# Altium schematic symbol library RF_Filter.SchLib: 201 symbols (part 1 of 2)
Pins are listed as number, name and electrical type; pins without a type are passive.

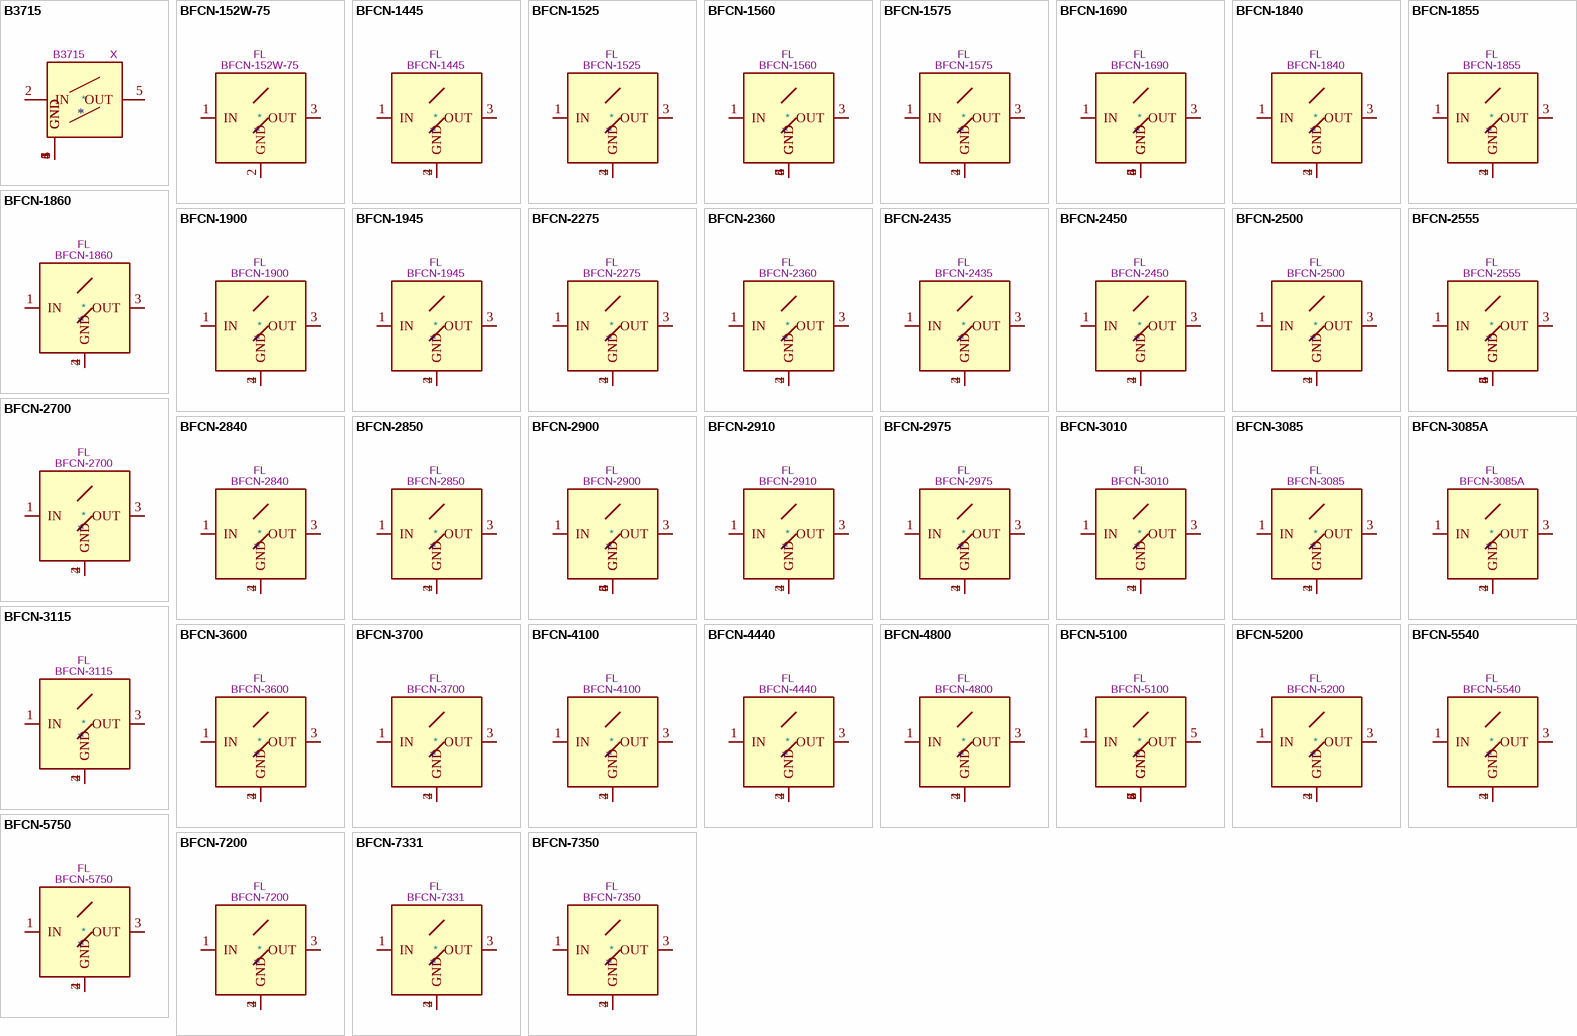
[diagram p0: symbols B3715 to BFCN-7350]

## B3715
designator *  value B3715  Reference: X
Bandpass Filter, 869MHz, SAW filter 6-pin; ki_keywords: SAW Filter 869 bandpass; ki_fp_filters: Filter*SAW*DCC6C*3x3mm*; Footprint: Filter:Filter_SAW_Epcos_DCC6C_3x3mm; Datasheet: https://www.mouser.de/datasheet/2/842/epcos16633_1-2300371.pdf; Description_: Bandpass Filter, 869MHz, SAW filter 6-pin
pins: 1 GND, 2 IN, 3 GND, 4 GND, 5 OUT, 6 GND

## BFCN-152W-75
designator *  value BFCN-152W-75  Reference: FL
950-1970MHz 75 Ohm Passive Band Pass Filter, FV1206-7; ki_keywords: Mini-Circuits band pass filter; ki_fp_filters: Filter*Mini?Circuits*FV1206?7*; Footprint: Filter:Filter_Mini-Circuits_FV1206-7; Datasheet: https://www.minicircuits.com/pdfs/BFCN-1445+.pdf; Description_: 950-1970MHz 75 Ohm Passive Band Pass Filter, FV1206-7
pins: 1 IN, 2 GND, 3 OUT

## BFCN-1445
designator *  value BFCN-1445  Reference: FL
1420-1470MHz 50 Ohm Passive Band Pass Filter, FV1206; ki_keywords: Mini-Circuits band pass filter; ki_fp_filters: Filter*Mini?Circuits*FV1206*; Footprint: Filter:Filter_Mini-Circuits_FV1206; Datasheet: https://www.minicircuits.com/pdfs/BFCN-1445+.pdf; Description_: 1420-1470MHz 50 Ohm Passive Band Pass Filter, FV1206
pins: 1 IN, 2 GND, 3 OUT, 4 GND

## BFCN-1525
designator *  value BFCN-1525  Reference: FL
1480-1570MHz 50 Ohm Passive Band Pass Filter, FV1206; ki_keywords: Mini-Circuits band pass filter; ki_fp_filters: Filter*Mini?Circuits*FV1206*; Footprint: Filter:Filter_Mini-Circuits_FV1206; Datasheet: https://www.minicircuits.com/pdfs/BFCN-1525+.pdf; Description_: 1480-1570MHz 50 Ohm Passive Band Pass Filter, FV1206
pins: 1 IN, 2 GND, 3 OUT, 4 GND

## BFCN-1560
designator *  value BFCN-1560  Reference: FL
1500-1620MHz 50 Ohm Passive Band Pass Filter, FV1206-1; ki_keywords: Mini-Circuits band pass filter; ki_fp_filters: Filter*Mini?Circuits*FV1206?1*; Footprint: Filter:Filter_Mini-Circuits_FV1206-1; Datasheet: https://www.minicircuits.com/pdfs/BFCN-1560+.pdf; Description_: 1500-1620MHz 50 Ohm Passive Band Pass Filter, FV1206-1
pins: 1 IN, 2 GND, 3 OUT, 4 GND, 5 GND, 6 GND

## BFCN-1575
designator *  value BFCN-1575  Reference: FL
1530-1620MHz 50 Ohm Passive Band Pass Filter, FV1206; ki_keywords: Mini-Circuits band pass filter; ki_fp_filters: Filter*Mini?Circuits*FV1206*; Footprint: Filter:Filter_Mini-Circuits_FV1206; Datasheet: https://www.minicircuits.com/pdfs/BFCN-1575+.pdf; Description_: 1530-1620MHz 50 Ohm Passive Band Pass Filter, FV1206
pins: 1 IN, 2 GND, 3 OUT, 4 GND

## BFCN-1690
designator *  value BFCN-1690  Reference: FL
1570-1810MHz 50 Ohm Passive Band Pass Filter, FV1206-1; ki_keywords: Mini-Circuits band pass filter; ki_fp_filters: Filter*Mini?Circuits*FV1206?1*; Footprint: Filter:Filter_Mini-Circuits_FV1206-1; Datasheet: https://www.minicircuits.com/pdfs/BFCN-1690+.pdf; Description_: 1570-1810MHz 50 Ohm Passive Band Pass Filter, FV1206-1
pins: 1 IN, 2 GND, 3 OUT, 4 GND, 5 GND, 6 GND

## BFCN-1840
designator *  value BFCN-1840  Reference: FL
1750-1930MHz 50 Ohm Passive Band Pass Filter, FV1206; ki_keywords: Mini-Circuits band pass filter; ki_fp_filters: Filter*Mini?Circuits*FV1206*; Footprint: Filter:Filter_Mini-Circuits_FV1206; Datasheet: https://www.minicircuits.com/pdfs/BFCN-1840+.pdf; Description_: 1750-1930MHz 50 Ohm Passive Band Pass Filter, FV1206
pins: 1 IN, 2 GND, 3 OUT, 4 GND

## BFCN-1855
designator *  value BFCN-1855  Reference: FL
1790-1920MHz 50 Ohm Passive Band Pass Filter, FV1206; ki_keywords: Mini-Circuits band pass filter; ki_fp_filters: Filter*Mini?Circuits*FV1206*; Footprint: Filter:Filter_Mini-Circuits_FV1206; Datasheet: https://www.minicircuits.com/pdfs/BFCN-1855+.pdf; Description_: 1790-1920MHz 50 Ohm Passive Band Pass Filter, FV1206
pins: 1 IN, 2 GND, 3 OUT, 4 GND

## BFCN-1860
designator *  value BFCN-1860  Reference: FL
1580-2200MHz 50 Ohm Passive Band Pass Filter, FV1206-4; ki_keywords: Mini-Circuits band pass filter; ki_fp_filters: Filter*Mini?Circuits*FV1206?4*; Footprint: Filter:Filter_Mini-Circuits_FV1206-4; Datasheet: https://www.minicircuits.com/pdfs/BFCN-1860+.pdf; Description_: 1580-2200MHz 50 Ohm Passive Band Pass Filter, FV1206-4
pins: 1 IN, 2 GND, 3 OUT, 4 GND

## BFCN-1900
designator *  value BFCN-1900  Reference: FL
1893-1920MHz 50 Ohm Passive Band Pass Filter, FV1206-5; ki_keywords: Mini-Circuits band pass filter; ki_fp_filters: Filter*Mini?Circuits*FV1206?5*; Footprint: Filter:Filter_Mini-Circuits_FV1206-5; Datasheet: https://www.minicircuits.com/pdfs/BFCN-1900+.pdf; Description_: 1893-1920MHz 50 Ohm Passive Band Pass Filter, FV1206-5
pins: 1 IN, 2 GND, 3 OUT, 4 GND

## BFCN-1945
designator *  value BFCN-1945  Reference: FL
1850-2040MHz 50 Ohm Passive Band Pass Filter, FV1206; ki_keywords: Mini-Circuits band pass filter; ki_fp_filters: Filter*Mini?Circuits*FV1206*; Footprint: Filter:Filter_Mini-Circuits_FV1206; Datasheet: https://www.minicircuits.com/pdfs/BFCN-1945+.pdf; Description_: 1850-2040MHz 50 Ohm Passive Band Pass Filter, FV1206
pins: 1 IN, 2 GND, 3 OUT, 4 GND

## BFCN-2275
designator *  value BFCN-2275  Reference: FL
2170-2380MHz 50 Ohm Passive Band Pass Filter, FV1206; ki_keywords: Mini-Circuits band pass filter; ki_fp_filters: Filter*Mini?Circuits*FV1206*; Footprint: Filter:Filter_Mini-Circuits_FV1206; Datasheet: https://www.minicircuits.com/pdfs/BFCN-2275+.pdf; Description_: 2170-2380MHz 50 Ohm Passive Band Pass Filter, FV1206
pins: 1 IN, 2 GND, 3 OUT, 4 GND

## BFCN-2360
designator *  value BFCN-2360  Reference: FL
2250-2470MHz 50 Ohm Passive Band Pass Filter, FV1206; ki_keywords: Mini-Circuits band pass filter; ki_fp_filters: Filter*Mini?Circuits*FV1206*; Footprint: Filter:Filter_Mini-Circuits_FV1206; Datasheet: https://www.minicircuits.com/pdfs/BFCN-2360+.pdf; Description_: 2250-2470MHz 50 Ohm Passive Band Pass Filter, FV1206
pins: 1 IN, 2 GND, 3 OUT, 4 GND

## BFCN-2435
designator *  value BFCN-2435  Reference: FL
2340-2530MHz 50 Ohm Passive Band Pass Filter, FV1206; ki_keywords: Mini-Circuits band pass filter; ki_fp_filters: Filter*Mini?Circuits*FV1206*; Footprint: Filter:Filter_Mini-Circuits_FV1206; Datasheet: https://www.minicircuits.com/pdfs/BFCN-2435+.pdf; Description_: 2340-2530MHz 50 Ohm Passive Band Pass Filter, FV1206
pins: 1 IN, 2 GND, 3 OUT, 4 GND

## BFCN-2450
designator *  value BFCN-2450  Reference: FL
2400-2550MHz 50 Ohm Passive Band Pass Filter, FV1206-4; ki_keywords: Mini-Circuits band pass filter; ki_fp_filters: Filter*Mini?Circuits*FV1206?4*; Footprint: Filter:Filter_Mini-Circuits_FV1206-4; Datasheet: https://www.minicircuits.com/pdfs/BFCN-2450+.pdf; Description_: 2400-2550MHz 50 Ohm Passive Band Pass Filter, FV1206-4
pins: 1 IN, 2 GND, 3 OUT, 4 GND

## BFCN-2500
designator *  value BFCN-2500  Reference: FL
2100-2900MHz 50 Ohm Passive Band Pass Filter, FV1206-4; ki_keywords: Mini-Circuits band pass filter; ki_fp_filters: Filter*Mini?Circuits*FV1206?4*; Footprint: Filter:Filter_Mini-Circuits_FV1206-4; Datasheet: https://www.minicircuits.com/pdfs/BFCN-2500+.pdf; Description_: 2100-2900MHz 50 Ohm Passive Band Pass Filter, FV1206-4
pins: 1 IN, 2 GND, 3 OUT, 4 GND

## BFCN-2555
designator *  value BFCN-2555  Reference: FL
2500-2610MHz 50 Ohm Passive Band Pass Filter, FV1206-1; ki_keywords: Mini-Circuits band pass filter; ki_fp_filters: Filter*Mini?Circuits*FV1206?1*; Footprint: Filter:Filter_Mini-Circuits_FV1206-1; Datasheet: https://www.minicircuits.com/pdfs/BFCN-2555+.pdf; Description_: 2500-2610MHz 50 Ohm Passive Band Pass Filter, FV1206-1
pins: 1 IN, 2 GND, 3 OUT, 4 GND, 5 GND, 6 GND

## BFCN-2700
designator *  value BFCN-2700  Reference: FL
2600-2800MHz 50 Ohm Passive Band Pass Filter, FV1206; ki_keywords: Mini-Circuits band pass filter; ki_fp_filters: Filter*Mini?Circuits*FV1206*; Footprint: Filter:Filter_Mini-Circuits_FV1206; Datasheet: https://www.minicircuits.com/pdfs/BFCN-2700+.pdf; Description_: 2600-2800MHz 50 Ohm Passive Band Pass Filter, FV1206
pins: 1 IN, 2 GND, 3 OUT, 4 GND

## BFCN-2840
designator *  value BFCN-2840  Reference: FL
2750-2930MHz 50 Ohm Passive Band Pass Filter, FV1206; ki_keywords: Mini-Circuits band pass filter; ki_fp_filters: Filter*Mini?Circuits*FV1206*; Footprint: Filter:Filter_Mini-Circuits_FV1206; Datasheet: https://www.minicircuits.com/pdfs/BFCN-2840+.pdf; Description_: 2750-2930MHz 50 Ohm Passive Band Pass Filter, FV1206
pins: 1 IN, 2 GND, 3 OUT, 4 GND

## BFCN-2850
designator *  value BFCN-2850  Reference: FL
2750-2950MHz 50 Ohm Passive Band Pass Filter, FV1206; ki_keywords: Mini-Circuits band pass filter; ki_fp_filters: Filter*Mini?Circuits*FV1206*; Footprint: Filter:Filter_Mini-Circuits_FV1206; Datasheet: https://www.minicircuits.com/pdfs/BFCN-2850+.pdf; Description_: 2750-2950MHz 50 Ohm Passive Band Pass Filter, FV1206
pins: 1 IN, 2 GND, 3 OUT, 4 GND

## BFCN-2900
designator *  value BFCN-2900  Reference: FL
2700-3100MHz 50 Ohm Passive Band Pass Filter, FV1206-1; ki_keywords: Mini-Circuits band pass filter; ki_fp_filters: Filter*Mini?Circuits*FV1206?1*; Footprint: Filter:Filter_Mini-Circuits_FV1206-1; Datasheet: https://www.minicircuits.com/pdfs/BFCN-2900+.pdf; Description_: 2700-3100MHz 50 Ohm Passive Band Pass Filter, FV1206-1
pins: 1 IN, 2 GND, 3 OUT, 4 GND, 5 GND, 6 GND

## BFCN-2910
designator *  value BFCN-2910  Reference: FL
2850-2970MHz 50 Ohm Passive Band Pass Filter, FV1206; ki_keywords: Mini-Circuits band pass filter; ki_fp_filters: Filter*Mini?Circuits*FV1206*; Footprint: Filter:Filter_Mini-Circuits_FV1206; Datasheet: https://www.minicircuits.com/pdfs/BFCN-2910+.pdf; Description_: 2850-2970MHz 50 Ohm Passive Band Pass Filter, FV1206
pins: 1 IN, 2 GND, 3 OUT, 4 GND

## BFCN-2975
designator *  value BFCN-2975  Reference: FL
2570-3440MHz 50 Ohm Passive Band Pass Filter, FV1206; ki_keywords: Mini-Circuits band pass filter; ki_fp_filters: Filter*Mini?Circuits*FV1206*; Footprint: Filter:Filter_Mini-Circuits_FV1206; Datasheet: https://www.minicircuits.com/pdfs/BFCN-2975+.pdf; Description_: 2570-3440MHz 50 Ohm Passive Band Pass Filter, FV1206
pins: 1 IN, 2 GND, 3 OUT, 4 GND

## BFCN-3010
designator *  value BFCN-3010  Reference: FL
2920-3100MHz 50 Ohm Passive Band Pass Filter, FV1206; ki_keywords: Mini-Circuits band pass filter; ki_fp_filters: Filter*Mini?Circuits*FV1206*; Footprint: Filter:Filter_Mini-Circuits_FV1206; Datasheet: https://www.minicircuits.com/pdfs/BFCN-3010+.pdf; Description_: 2920-3100MHz 50 Ohm Passive Band Pass Filter, FV1206
pins: 1 IN, 2 GND, 3 OUT, 4 GND

## BFCN-3085
designator *  value BFCN-3085  Reference: FL
2800-3400MHz 50 Ohm Passive Band Pass Filter, FV1206; ki_keywords: Mini-Circuits band pass filter; ki_fp_filters: Filter*Mini?Circuits*FV1206*; Footprint: Filter:Filter_Mini-Circuits_FV1206; Datasheet: https://www.minicircuits.com/pdfs/BFCN-3085+.pdf; Description_: 2800-3400MHz 50 Ohm Passive Band Pass Filter, FV1206
pins: 1 IN, 2 GND, 3 OUT, 4 GND

## BFCN-3085A
designator *  value BFCN-3085A  Reference: FL
2800-3400MHz 50 Ohm Passive Band Pass Filter, FV1206; ki_keywords: Mini-Circuits band pass filter; ki_fp_filters: Filter*Mini?Circuits*FV1206*; Footprint: Filter:Filter_Mini-Circuits_FV1206; Datasheet: https://www.minicircuits.com/pdfs/BFCN-3085A+.pdf; Description_: 2800-3400MHz 50 Ohm Passive Band Pass Filter, FV1206
pins: 1 IN, 2 GND, 3 OUT, 4 GND

## BFCN-3115
designator *  value BFCN-3115  Reference: FL
2720-3570MHz 50 Ohm Passive Band Pass Filter, FV1206; ki_keywords: Mini-Circuits band pass filter; ki_fp_filters: Filter*Mini?Circuits*FV1206*; Footprint: Filter:Filter_Mini-Circuits_FV1206; Datasheet: https://www.minicircuits.com/pdfs/BFCN-3115+.pdf; Description_: 2720-3570MHz 50 Ohm Passive Band Pass Filter, FV1206
pins: 1 IN, 2 GND, 3 OUT, 4 GND

## BFCN-3600
designator *  value BFCN-3600  Reference: FL
3300-3900MHz 50 Ohm Passive Band Pass Filter, FV1206; ki_keywords: Mini-Circuits band pass filter; ki_fp_filters: Filter*Mini?Circuits*FV1206*; Footprint: Filter:Filter_Mini-Circuits_FV1206; Datasheet: https://www.minicircuits.com/pdfs/BFCN-3600+.pdf; Description_: 3300-3900MHz 50 Ohm Passive Band Pass Filter, FV1206
pins: 1 IN, 2 GND, 3 OUT, 4 GND

## BFCN-3700
designator *  value BFCN-3700  Reference: FL
3000-4600MHz 50 Ohm Passive Band Pass Filter, FV1206-4; ki_keywords: Mini-Circuits band pass filter; ki_fp_filters: Filter*Mini?Circuits*FV1206?4*; Footprint: Filter:Filter_Mini-Circuits_FV1206-4; Datasheet: https://www.minicircuits.com/pdfs/BFCN-3700+.pdf; Description_: 3000-4600MHz 50 Ohm Passive Band Pass Filter, FV1206-4
pins: 1 IN, 2 GND, 3 OUT, 4 GND

## BFCN-4100
designator *  value BFCN-4100  Reference: FL
3700-4500MHz 50 Ohm Passive Band Pass Filter, FV1206; ki_keywords: Mini-Circuits band pass filter; ki_fp_filters: Filter*Mini?Circuits*FV1206*; Footprint: Filter:Filter_Mini-Circuits_FV1206; Datasheet: https://www.minicircuits.com/pdfs/BFCN-4100+.pdf; Description_: 3700-4500MHz 50 Ohm Passive Band Pass Filter, FV1206
pins: 1 IN, 2 GND, 3 OUT, 4 GND

## BFCN-4440
designator *  value BFCN-4440  Reference: FL
4200-4700MHz 50 Ohm Passive Band Pass Filter, FV1206; ki_keywords: Mini-Circuits band pass filter; ki_fp_filters: Filter*Mini?Circuits*FV1206*; Footprint: Filter:Filter_Mini-Circuits_FV1206; Datasheet: https://www.minicircuits.com/pdfs/BFCN-4440+.pdf; Description_: 4200-4700MHz 50 Ohm Passive Band Pass Filter, FV1206
pins: 1 IN, 2 GND, 3 OUT, 4 GND

## BFCN-4800
designator *  value BFCN-4800  Reference: FL
4400-5200MHz 50 Ohm Passive Band Pass Filter, FV1206; ki_keywords: Mini-Circuits band pass filter; ki_fp_filters: Filter*Mini?Circuits*FV1206*; Footprint: Filter:Filter_Mini-Circuits_FV1206; Datasheet: https://www.minicircuits.com/pdfs/BFCN-4800+.pdf; Description_: 4400-5200MHz 50 Ohm Passive Band Pass Filter, FV1206
pins: 1 IN, 2 GND, 3 OUT, 4 GND

## BFCN-5100
designator *  value BFCN-5100  Reference: FL
3100-7100MHz 50 Ohm Passive Band Pass Filter, FV1206-6; ki_keywords: Mini-Circuits band pass filter; ki_fp_filters: Filter*Mini?Circuits*FV1206?6*; Footprint: Filter:Filter_Mini-Circuits_FV1206-6; Datasheet: https://www.minicircuits.com/pdfs/BFCN-5100+.pdf; Description_: 3100-7100MHz 50 Ohm Passive Band Pass Filter, FV1206-6
pins: 1 IN, 2 GND, 3 GND, 4 GND, 5 OUT, 6 GND, 7 GND, 8 GND

## BFCN-5200
designator *  value BFCN-5200  Reference: FL
4250-6300MHz 50 Ohm Passive Band Pass Filter, FV1206-4; ki_keywords: Mini-Circuits band pass filter; ki_fp_filters: Filter*Mini?Circuits*FV1206?4*; Footprint: Filter:Filter_Mini-Circuits_FV1206-4; Datasheet: https://www.minicircuits.com/pdfs/BFCN-5200+.pdf; Description_: 4250-6300MHz 50 Ohm Passive Band Pass Filter, FV1206-4
pins: 1 IN, 2 GND, 3 OUT, 4 GND

## BFCN-5540
designator *  value BFCN-5540  Reference: FL
4620-6640MHz 50 Ohm Passive Band Pass Filter, FV1206-4; ki_keywords: Mini-Circuits band pass filter; ki_fp_filters: Filter*Mini?Circuits*FV1206?4*; Footprint: Filter:Filter_Mini-Circuits_FV1206-4; Datasheet: https://www.minicircuits.com/pdfs/BFCN-5540+.pdf; Description_: 4620-6640MHz 50 Ohm Passive Band Pass Filter, FV1206-4
pins: 1 IN, 2 GND, 3 OUT, 4 GND

## BFCN-5750
designator *  value BFCN-5750  Reference: FL
5650-5850MHz 50 Ohm Passive Band Pass Filter, FV1206-4; ki_keywords: Mini-Circuits band pass filter; ki_fp_filters: Filter*Mini?Circuits*FV1206?4*; Footprint: Filter:Filter_Mini-Circuits_FV1206-4; Datasheet: https://www.minicircuits.com/pdfs/BFCN-5750+.pdf; Description_: 5650-5850MHz 50 Ohm Passive Band Pass Filter, FV1206-4
pins: 1 IN, 2 GND, 3 OUT, 4 GND

## BFCN-7200
designator *  value BFCN-7200  Reference: FL
7100-7300MHz 50 Ohm Passive Band Pass Filter, FV1206-4; ki_keywords: Mini-Circuits band pass filter; ki_fp_filters: Filter*Mini?Circuits*FV1206?4*; Footprint: Filter:Filter_Mini-Circuits_FV1206-4; Datasheet: https://www.minicircuits.com/pdfs/BFCN-7200+.pdf; Description_: 7100-7300MHz 50 Ohm Passive Band Pass Filter, FV1206-4
pins: 1 IN, 2 GND, 3 OUT, 4 GND

## BFCN-7331
designator *  value BFCN-7331  Reference: FL
6850-7850MHz 50 Ohm Passive Band Pass Filter, FV1206-4; ki_keywords: Mini-Circuits band pass filter; ki_fp_filters: Filter*Mini?Circuits*FV1206?4*; Footprint: Filter:Filter_Mini-Circuits_FV1206-4; Datasheet: https://www.minicircuits.com/pdfs/BFCN-7331+.pdf; Description_: 6850-7850MHz 50 Ohm Passive Band Pass Filter, FV1206-4
pins: 1 IN, 2 GND, 3 OUT, 4 GND

## BFCN-7350
designator *  value BFCN-7350  Reference: FL
7150-7550MHz 50 Ohm Passive Band Pass Filter, FV1206-4; ki_keywords: Mini-Circuits band pass filter; ki_fp_filters: Filter*Mini?Circuits*FV1206?4*; Footprint: Filter:Filter_Mini-Circuits_FV1206-4; Datasheet: https://www.minicircuits.com/pdfs/BFCN-7350+.pdf; Description_: 7150-7550MHz 50 Ohm Passive Band Pass Filter, FV1206-4
pins: 1 IN, 2 GND, 3 OUT, 4 GND

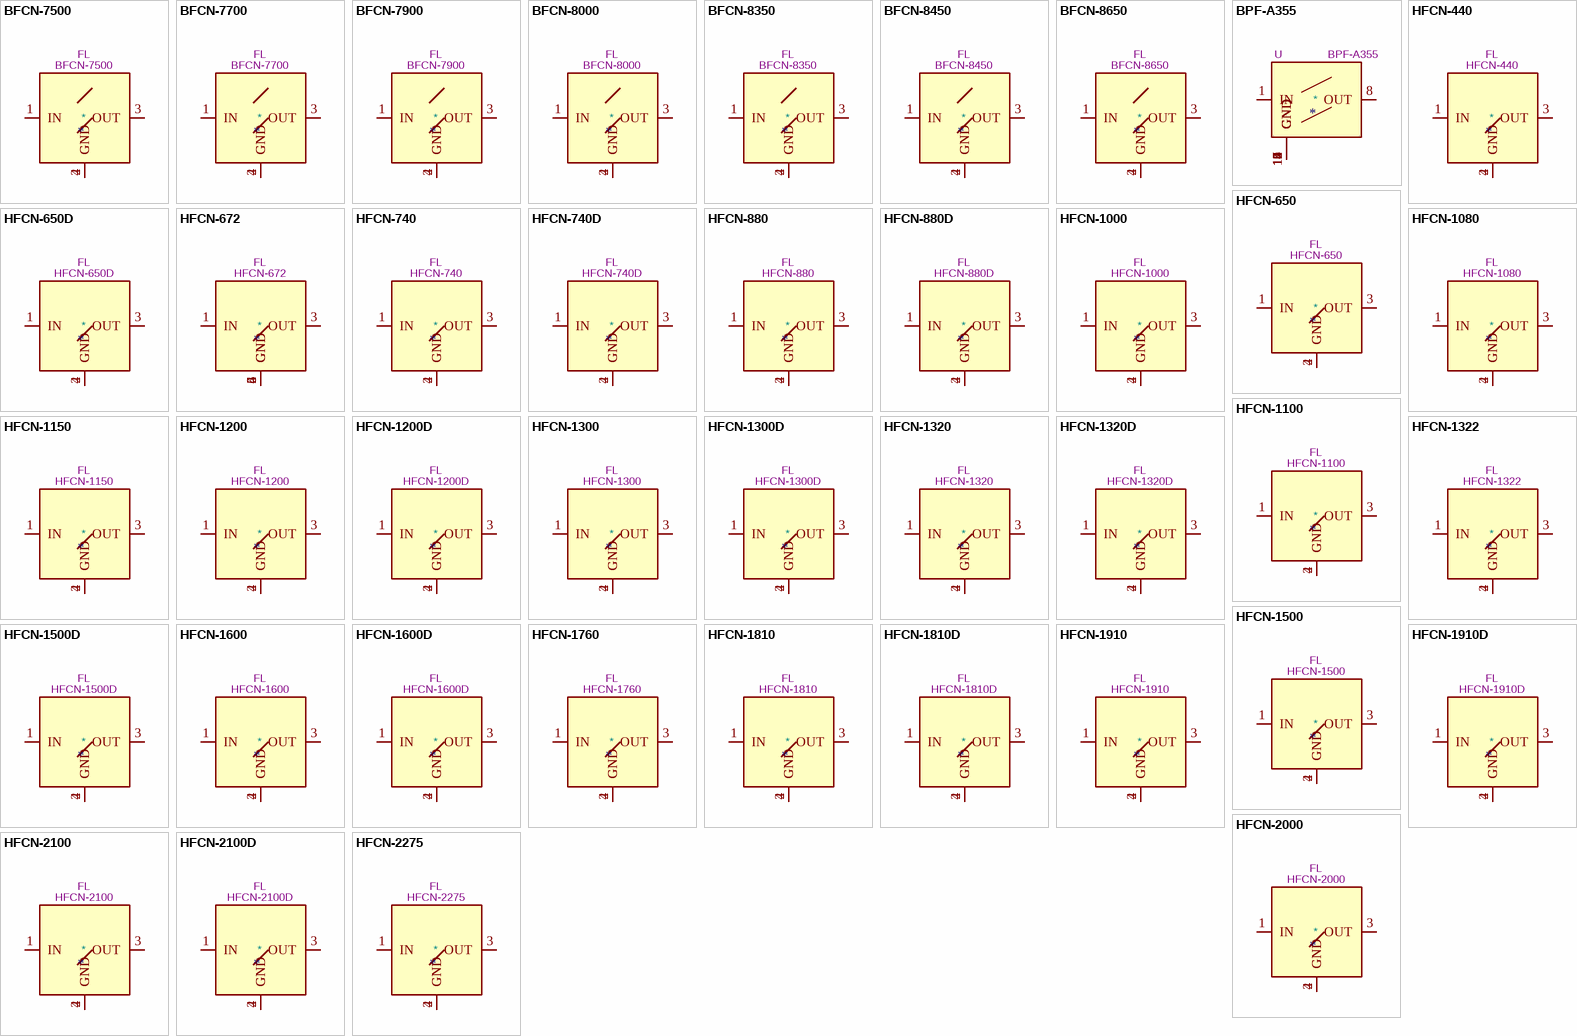
[diagram p1: symbols BFCN-7500 to HFCN-2275]

## BFCN-7500
designator *  value BFCN-7500  Reference: FL
7450-7650MHz 50 Ohm Passive Band Pass Filter, FV1206-4; ki_keywords: Mini-Circuits band pass filter; ki_fp_filters: Filter*Mini?Circuits*FV1206?4*; Footprint: Filter:Filter_Mini-Circuits_FV1206-4; Datasheet: https://www.minicircuits.com/pdfs/BFCN-7500+.pdf; Description_: 7450-7650MHz 50 Ohm Passive Band Pass Filter, FV1206-4
pins: 1 IN, 2 GND, 3 OUT, 4 GND

## BFCN-7700
designator *  value BFCN-7700  Reference: FL
7500-7900MHz 50 Ohm Passive Band Pass Filter, FV1206-4; ki_keywords: Mini-Circuits band pass filter; ki_fp_filters: Filter*Mini?Circuits*FV1206?4*; Footprint: Filter:Filter_Mini-Circuits_FV1206-4; Datasheet: https://www.minicircuits.com/pdfs/BFCN-7700+.pdf; Description_: 7500-7900MHz 50 Ohm Passive Band Pass Filter, FV1206-4
pins: 1 IN, 2 GND, 3 OUT, 4 GND

## BFCN-7900
designator *  value BFCN-7900  Reference: FL
7800-8100MHz 50 Ohm Passive Band Pass Filter, FV1206-4; ki_keywords: Mini-Circuits band pass filter; ki_fp_filters: Filter*Mini?Circuits*FV1206?4*; Footprint: Filter:Filter_Mini-Circuits_FV1206-4; Datasheet: https://www.minicircuits.com/pdfs/BFCN-7900+.pdf; Description_: 7800-8100MHz 50 Ohm Passive Band Pass Filter, FV1206-4
pins: 1 IN, 2 GND, 3 OUT, 4 GND

## BFCN-8000
designator *  value BFCN-8000  Reference: FL
7900-8100MHz 50 Ohm Passive Band Pass Filter, FV1206-4; ki_keywords: Mini-Circuits band pass filter; ki_fp_filters: Filter*Mini?Circuits*FV1206?4*; Footprint: Filter:Filter_Mini-Circuits_FV1206-4; Datasheet: https://www.minicircuits.com/pdfs/BFCN-8000+.pdf; Description_: 7900-8100MHz 50 Ohm Passive Band Pass Filter, FV1206-4
pins: 1 IN, 2 GND, 3 OUT, 4 GND

## BFCN-8350
designator *  value BFCN-8350  Reference: FL
8250-8450MHz 50 Ohm Passive Band Pass Filter, FV1206-4; ki_keywords: Mini-Circuits band pass filter; ki_fp_filters: Filter*Mini?Circuits*FV1206?4*; Footprint: Filter:Filter_Mini-Circuits_FV1206-4; Datasheet: https://www.minicircuits.com/pdfs/BFCN-8350+.pdf; Description_: 8250-8450MHz 50 Ohm Passive Band Pass Filter, FV1206-4
pins: 1 IN, 2 GND, 3 OUT, 4 GND

## BFCN-8450
designator *  value BFCN-8450  Reference: FL
8350-8550MHz 50 Ohm Passive Band Pass Filter, FV1206-4; ki_keywords: Mini-Circuits band pass filter; ki_fp_filters: Filter*Mini?Circuits*FV1206?4*; Footprint: Filter:Filter_Mini-Circuits_FV1206-4; Datasheet: https://www.minicircuits.com/pdfs/BFCN-8450+.pdf; Description_: 8350-8550MHz 50 Ohm Passive Band Pass Filter, FV1206-4
pins: 1 IN, 2 GND, 3 OUT, 4 GND

## BFCN-8650
designator *  value BFCN-8650  Reference: FL
8550-8750MHz 50 Ohm Passive Band Pass Filter, FV1206-4; ki_keywords: Mini-Circuits band pass filter; ki_fp_filters: Filter*Mini?Circuits*FV1206?4*; Footprint: Filter:Filter_Mini-Circuits_FV1206-4; Datasheet: https://www.minicircuits.com/pdfs/BFCN-8650+.pdf; Description_: 8550-8750MHz 50 Ohm Passive Band Pass Filter, FV1206-4
pins: 1 IN, 2 GND, 3 OUT, 4 GND

## BPF-A355
designator *  value BPF-A355  Reference: U
Bandpass Filter, 310 to 400 MHz, 50 Ohm, Mini-Circuits HQ1157; ki_fp_filters: Mini?Circuits*HQ1157*; Footprint: RF_Mini-Circuits:Mini-Circuits_HQ1157; Datasheet: https://www.minicircuits.com/pdfs/BPF-A355+.pdf; Description_: Bandpass Filter, 310 to 400 MHz, 50 Ohm, Mini-Circuits HQ1157; ki_keywords: Bandpass Filter
pins: 1 IN, 2 GND, 3 GND, 4 GND, 5 GND, 6 GND, 7 GND, 8 OUT, 9 GND, 10 GND, 11 GND, 12 GND, 13 GND, 14 GND

## HFCN-440
designator *  value HFCN-440  Reference: FL
440MHz 50 Ohm Passive High Pass Filter, FV1206; ki_keywords: Mini-Circuits high pass filter; ki_fp_filters: Filter*Mini?Circuits*FV1206*; Footprint: Filter:Filter_Mini-Circuits_FV1206; Datasheet: https://www.minicircuits.com/pdfs/HFCN-440+.pdf; Description_: 440MHz 50 Ohm Passive High Pass Filter, FV1206
pins: 1 IN, 2 GND, 3 OUT, 4 GND

## HFCN-650
designator *  value HFCN-650  Reference: FL
650MHz 50 Ohm Passive High Pass Filter, FV1206; ki_keywords: Mini-Circuits high pass filter; ki_fp_filters: Filter*Mini?Circuits*FV1206*; Footprint: Filter:Filter_Mini-Circuits_FV1206; Datasheet: https://www.minicircuits.com/pdfs/HFCN-650+.pdf; Description_: 650MHz 50 Ohm Passive High Pass Filter, FV1206
pins: 1 IN, 2 GND, 3 OUT, 4 GND

## HFCN-650D
designator *  value HFCN-650D  Reference: FL
650MHz 50 Ohm Passive High Pass Filter, DC capable, FV1206; ki_keywords: Mini-Circuits high pass filter; ki_fp_filters: Filter*Mini?Circuits*FV1206*; Footprint: Filter:Filter_Mini-Circuits_FV1206; Datasheet: https://www.minicircuits.com/pdfs/HFCN-650D+.pdf; Description_: 650MHz 50 Ohm Passive High Pass Filter, DC capable, FV1206
pins: 1 IN, 2 GND, 3 OUT, 4 GND

## HFCN-672
designator *  value HFCN-672  Reference: FL
6275MHz 50 Ohm Passive High Pass Filter, FV1206-1; ki_keywords: Mini-Circuits high pass filter; ki_fp_filters: Filter*Mini?Circuits*FV1206?1*; Footprint: Filter:Filter_Mini-Circuits_FV1206-1; Datasheet: https://www.minicircuits.com/pdfs/HFCN-672+.pdf; Description_: 6275MHz 50 Ohm Passive High Pass Filter, FV1206-1
pins: 1 IN, 2 GND, 3 OUT, 4 GND, 5 GND, 6 GND

## HFCN-740
designator *  value HFCN-740  Reference: FL
740MHz 50 Ohm Passive High Pass Filter, FV1206; ki_keywords: Mini-Circuits high pass filter; ki_fp_filters: Filter*Mini?Circuits*FV1206*; Footprint: Filter:Filter_Mini-Circuits_FV1206; Datasheet: https://www.minicircuits.com/pdfs/HFCN-740+.pdf; Description_: 740MHz 50 Ohm Passive High Pass Filter, FV1206
pins: 1 IN, 2 GND, 3 OUT, 4 GND

## HFCN-740D
designator *  value HFCN-740D  Reference: FL
740MHz 50 Ohm Passive High Pass Filter, DC capable, FV1206; ki_keywords: Mini-Circuits high pass filter; ki_fp_filters: Filter*Mini?Circuits*FV1206*; Footprint: Filter:Filter_Mini-Circuits_FV1206; Datasheet: https://www.minicircuits.com/pdfs/HFCN-740D+.pdf; Description_: 740MHz 50 Ohm Passive High Pass Filter, DC capable, FV1206
pins: 1 IN, 2 GND, 3 OUT, 4 GND

## HFCN-880
designator *  value HFCN-880  Reference: FL
880MHz 50 Ohm Passive High Pass Filter, FV1206; ki_keywords: Mini-Circuits high pass filter; ki_fp_filters: Filter*Mini?Circuits*FV1206*; Footprint: Filter:Filter_Mini-Circuits_FV1206; Datasheet: https://www.minicircuits.com/pdfs/HFCN-880+.pdf; Description_: 880MHz 50 Ohm Passive High Pass Filter, FV1206
pins: 1 IN, 2 GND, 3 OUT, 4 GND

## HFCN-880D
designator *  value HFCN-880D  Reference: FL
880MHz 50 Ohm Passive High Pass Filter, DC capable, FV1206; ki_keywords: Mini-Circuits high pass filter; ki_fp_filters: Filter*Mini?Circuits*FV1206*; Footprint: Filter:Filter_Mini-Circuits_FV1206; Datasheet: https://www.minicircuits.com/pdfs/HFCN-880D+.pdf; Description_: 880MHz 50 Ohm Passive High Pass Filter, DC capable, FV1206
pins: 1 IN, 2 GND, 3 OUT, 4 GND

## HFCN-1000
designator *  value HFCN-1000  Reference: FL
1000MHz 50 Ohm Passive High Pass Filter, FV1206; ki_keywords: Mini-Circuits high pass filter; ki_fp_filters: Filter*Mini?Circuits*FV1206*; Footprint: Filter:Filter_Mini-Circuits_FV1206; Datasheet: https://www.minicircuits.com/pdfs/HFCN-1000+.pdf; Description_: 1000MHz 50 Ohm Passive High Pass Filter, FV1206
pins: 1 IN, 2 GND, 3 OUT, 4 GND

## HFCN-1080
designator *  value HFCN-1080  Reference: FL
1080MHz 50 Ohm Passive High Pass Filter, FV1206; ki_keywords: Mini-Circuits high pass filter; ki_fp_filters: Filter*Mini?Circuits*FV1206*; Footprint: Filter:Filter_Mini-Circuits_FV1206; Datasheet: https://www.minicircuits.com/pdfs/HFCN-1080+.pdf; Description_: 1080MHz 50 Ohm Passive High Pass Filter, FV1206
pins: 1 IN, 2 GND, 3 OUT, 4 GND

## HFCN-1100
designator *  value HFCN-1100  Reference: FL
1100MHz 50 Ohm Passive High Pass Filter, FV1206; ki_keywords: Mini-Circuits high pass filter; ki_fp_filters: Filter*Mini?Circuits*FV1206*; Footprint: Filter:Filter_Mini-Circuits_FV1206; Datasheet: https://www.minicircuits.com/pdfs/HFCN-1100+.pdf; Description_: 1100MHz 50 Ohm Passive High Pass Filter, FV1206
pins: 1 IN, 2 GND, 3 OUT, 4 GND

## HFCN-1150
designator *  value HFCN-1150  Reference: FL
1150MHz 50 Ohm Passive High Pass Filter, FV1206; ki_keywords: Mini-Circuits high pass filter; ki_fp_filters: Filter*Mini?Circuits*FV1206*; Footprint: Filter:Filter_Mini-Circuits_FV1206; Datasheet: https://www.minicircuits.com/pdfs/HFCN-1150+.pdf; Description_: 1150MHz 50 Ohm Passive High Pass Filter, FV1206
pins: 1 IN, 2 GND, 3 OUT, 4 GND

## HFCN-1200
designator *  value HFCN-1200  Reference: FL
1180MHz 50 Ohm Passive High Pass Filter, FV1206; ki_keywords: Mini-Circuits high pass filter; ki_fp_filters: Filter*Mini?Circuits*FV1206*; Footprint: Filter:Filter_Mini-Circuits_FV1206; Datasheet: https://www.minicircuits.com/pdfs/HFCN-1200+.pdf; Description_: 1180MHz 50 Ohm Passive High Pass Filter, FV1206
pins: 1 IN, 2 GND, 3 OUT, 4 GND

## HFCN-1200D
designator *  value HFCN-1200D  Reference: FL
1180MHz 50 Ohm Passive High Pass Filter, DC capable, FV1206; ki_keywords: Mini-Circuits high pass filter; ki_fp_filters: Filter*Mini?Circuits*FV1206*; Footprint: Filter:Filter_Mini-Circuits_FV1206; Datasheet: https://www.minicircuits.com/pdfs/HFCN-1200D+.pdf; Description_: 1180MHz 50 Ohm Passive High Pass Filter, DC capable, FV1206
pins: 1 IN, 2 GND, 3 OUT, 4 GND

## HFCN-1300
designator *  value HFCN-1300  Reference: FL
1300MHz 50 Ohm Passive High Pass Filter, FV1206; ki_keywords: Mini-Circuits high pass filter; ki_fp_filters: Filter*Mini?Circuits*FV1206*; Footprint: Filter:Filter_Mini-Circuits_FV1206; Datasheet: https://www.minicircuits.com/pdfs/HFCN-1300+.pdf; Description_: 1300MHz 50 Ohm Passive High Pass Filter, FV1206
pins: 1 IN, 2 GND, 3 OUT, 4 GND

## HFCN-1300D
designator *  value HFCN-1300D  Reference: FL
1300MHz 50 Ohm Passive High Pass Filter, DC capable, FV1206; ki_keywords: Mini-Circuits high pass filter; ki_fp_filters: Filter*Mini?Circuits*FV1206*; Footprint: Filter:Filter_Mini-Circuits_FV1206; Datasheet: https://www.minicircuits.com/pdfs/HFCN-1300D+.pdf; Description_: 1300MHz 50 Ohm Passive High Pass Filter, DC capable, FV1206
pins: 1 IN, 2 GND, 3 OUT, 4 GND

## HFCN-1320
designator *  value HFCN-1320  Reference: FL
1320MHz 50 Ohm Passive High Pass Filter, FV1206; ki_keywords: Mini-Circuits high pass filter; ki_fp_filters: Filter*Mini?Circuits*FV1206*; Footprint: Filter:Filter_Mini-Circuits_FV1206; Datasheet: https://www.minicircuits.com/pdfs/HFCN-1320+.pdf; Description_: 1320MHz 50 Ohm Passive High Pass Filter, FV1206
pins: 1 IN, 2 GND, 3 OUT, 4 GND

## HFCN-1320D
designator *  value HFCN-1320D  Reference: FL
1320MHz 50 Ohm Passive High Pass Filter, DC capable, FV1206; ki_keywords: Mini-Circuits high pass filter; ki_fp_filters: Filter*Mini?Circuits*FV1206*; Footprint: Filter:Filter_Mini-Circuits_FV1206; Datasheet: https://www.minicircuits.com/pdfs/HFCN-1320D+.pdf; Description_: 1320MHz 50 Ohm Passive High Pass Filter, DC capable, FV1206
pins: 1 IN, 2 GND, 3 OUT, 4 GND

## HFCN-1322
designator *  value HFCN-1322  Reference: FL
13300MHz 50 Ohm Passive High Pass Filter, FV1206-4; ki_keywords: Mini-Circuits high pass filter; ki_fp_filters: Filter*Mini?Circuits*FV1206?4*; Footprint: Filter:Filter_Mini-Circuits_FV1206-4; Datasheet: https://www.minicircuits.com/pdfs/HFCN-1322+.pdf; Description_: 13300MHz 50 Ohm Passive High Pass Filter, FV1206-4
pins: 1 IN, 2 GND, 3 OUT, 4 GND

## HFCN-1500
designator *  value HFCN-1500  Reference: FL
1550MHz 50 Ohm Passive High Pass Filter, FV1206; ki_keywords: Mini-Circuits high pass filter; ki_fp_filters: Filter*Mini?Circuits*FV1206*; Footprint: Filter:Filter_Mini-Circuits_FV1206; Datasheet: https://www.minicircuits.com/pdfs/HFCN-1500+.pdf; Description_: 1550MHz 50 Ohm Passive High Pass Filter, FV1206
pins: 1 IN, 2 GND, 3 OUT, 4 GND

## HFCN-1500D
designator *  value HFCN-1500D  Reference: FL
1550MHz 50 Ohm Passive High Pass Filter, DC capable, FV1206; ki_keywords: Mini-Circuits high pass filter; ki_fp_filters: Filter*Mini?Circuits*FV1206*; Footprint: Filter:Filter_Mini-Circuits_FV1206; Datasheet: https://www.minicircuits.com/pdfs/HFCN-1500D+.pdf; Description_: 1550MHz 50 Ohm Passive High Pass Filter, DC capable, FV1206
pins: 1 IN, 2 GND, 3 OUT, 4 GND

## HFCN-1600
designator *  value HFCN-1600  Reference: FL
1600MHz 50 Ohm Passive High Pass Filter, FV1206; ki_keywords: Mini-Circuits high pass filter; ki_fp_filters: Filter*Mini?Circuits*FV1206*; Footprint: Filter:Filter_Mini-Circuits_FV1206; Datasheet: https://www.minicircuits.com/pdfs/HFCN-1600+.pdf; Description_: 1600MHz 50 Ohm Passive High Pass Filter, FV1206
pins: 1 IN, 2 GND, 3 OUT, 4 GND

## HFCN-1600D
designator *  value HFCN-1600D  Reference: FL
1600MHz 50 Ohm Passive High Pass Filter, DC capable, FV1206; ki_keywords: Mini-Circuits high pass filter; ki_fp_filters: Filter*Mini?Circuits*FV1206*; Footprint: Filter:Filter_Mini-Circuits_FV1206; Datasheet: https://www.minicircuits.com/pdfs/HFCN-1600D+.pdf; Description_: 1600MHz 50 Ohm Passive High Pass Filter, DC capable, FV1206
pins: 1 IN, 2 GND, 3 OUT, 4 GND

## HFCN-1760
designator *  value HFCN-1760  Reference: FL
1760MHz 50 Ohm Passive High Pass Filter, FV1206; ki_keywords: Mini-Circuits high pass filter; ki_fp_filters: Filter*Mini?Circuits*FV1206*; Footprint: Filter:Filter_Mini-Circuits_FV1206; Datasheet: https://www.minicircuits.com/pdfs/HFCN-1760+.pdf; Description_: 1760MHz 50 Ohm Passive High Pass Filter, FV1206
pins: 1 IN, 2 GND, 3 OUT, 4 GND

## HFCN-1810
designator *  value HFCN-1810  Reference: FL
1810MHz 50 Ohm Passive High Pass Filter, FV1206; ki_keywords: Mini-Circuits high pass filter; ki_fp_filters: Filter*Mini?Circuits*FV1206*; Footprint: Filter:Filter_Mini-Circuits_FV1206; Datasheet: https://www.minicircuits.com/pdfs/HFCN-1810+.pdf; Description_: 1810MHz 50 Ohm Passive High Pass Filter, FV1206
pins: 1 IN, 2 GND, 3 OUT, 4 GND

## HFCN-1810D
designator *  value HFCN-1810D  Reference: FL
1810MHz 50 Ohm Passive High Pass Filter, DC capable, FV1206; ki_keywords: Mini-Circuits high pass filter; ki_fp_filters: Filter*Mini?Circuits*FV1206*; Footprint: Filter:Filter_Mini-Circuits_FV1206; Datasheet: https://www.minicircuits.com/pdfs/HFCN-1810D+.pdf; Description_: 1810MHz 50 Ohm Passive High Pass Filter, DC capable, FV1206
pins: 1 IN, 2 GND, 3 OUT, 4 GND

## HFCN-1910
designator *  value HFCN-1910  Reference: FL
1910MHz 50 Ohm Passive High Pass Filter, FV1206; ki_keywords: Mini-Circuits high pass filter; ki_fp_filters: Filter*Mini?Circuits*FV1206*; Footprint: Filter:Filter_Mini-Circuits_FV1206; Datasheet: https://www.minicircuits.com/pdfs/HFCN-1910+.pdf; Description_: 1910MHz 50 Ohm Passive High Pass Filter, FV1206
pins: 1 IN, 2 GND, 3 OUT, 4 GND

## HFCN-1910D
designator *  value HFCN-1910D  Reference: FL
1910MHz 50 Ohm Passive High Pass Filter, DC capable, FV1206; ki_keywords: Mini-Circuits high pass filter; ki_fp_filters: Filter*Mini?Circuits*FV1206*; Footprint: Filter:Filter_Mini-Circuits_FV1206; Datasheet: https://www.minicircuits.com/pdfs/HFCN-1910D+.pdf; Description_: 1910MHz 50 Ohm Passive High Pass Filter, DC capable, FV1206
pins: 1 IN, 2 GND, 3 OUT, 4 GND

## HFCN-2000
designator *  value HFCN-2000  Reference: FL
2000MHz 50 Ohm Passive High Pass Filter, FV1206; ki_keywords: Mini-Circuits high pass filter; ki_fp_filters: Filter*Mini?Circuits*FV1206*; Footprint: Filter:Filter_Mini-Circuits_FV1206; Datasheet: https://www.minicircuits.com/pdfs/HFCN-2000.pdf; Description_: 2000MHz 50 Ohm Passive High Pass Filter, FV1206
pins: 1 IN, 2 GND, 3 OUT, 4 GND

## HFCN-2100
designator *  value HFCN-2100  Reference: FL
2100MHz 50 Ohm Passive High Pass Filter, FV1206; ki_keywords: Mini-Circuits high pass filter; ki_fp_filters: Filter*Mini?Circuits*FV1206*; Footprint: Filter:Filter_Mini-Circuits_FV1206; Datasheet: https://www.minicircuits.com/pdfs/HFCN-2100+.pdf; Description_: 2100MHz 50 Ohm Passive High Pass Filter, FV1206
pins: 1 IN, 2 GND, 3 OUT, 4 GND

## HFCN-2100D
designator *  value HFCN-2100D  Reference: FL
2100MHz 50 Ohm Passive High Pass Filter, DC capable, FV1206; ki_keywords: Mini-Circuits high pass filter; ki_fp_filters: Filter*Mini?Circuits*FV1206*; Footprint: Filter:Filter_Mini-Circuits_FV1206; Datasheet: https://www.minicircuits.com/pdfs/HFCN-2100D+.pdf; Description_: 2100MHz 50 Ohm Passive High Pass Filter, DC capable, FV1206
pins: 1 IN, 2 GND, 3 OUT, 4 GND

## HFCN-2275
designator *  value HFCN-2275  Reference: FL
2275MHz 50 Ohm Passive High Pass Filter, FV1206; ki_keywords: Mini-Circuits high pass filter; ki_fp_filters: Filter*Mini?Circuits*FV1206*; Footprint: Filter:Filter_Mini-Circuits_FV1206; Datasheet: https://www.minicircuits.com/pdfs/HFCN-2275+.pdf; Description_: 2275MHz 50 Ohm Passive High Pass Filter, FV1206
pins: 1 IN, 2 GND, 3 OUT, 4 GND

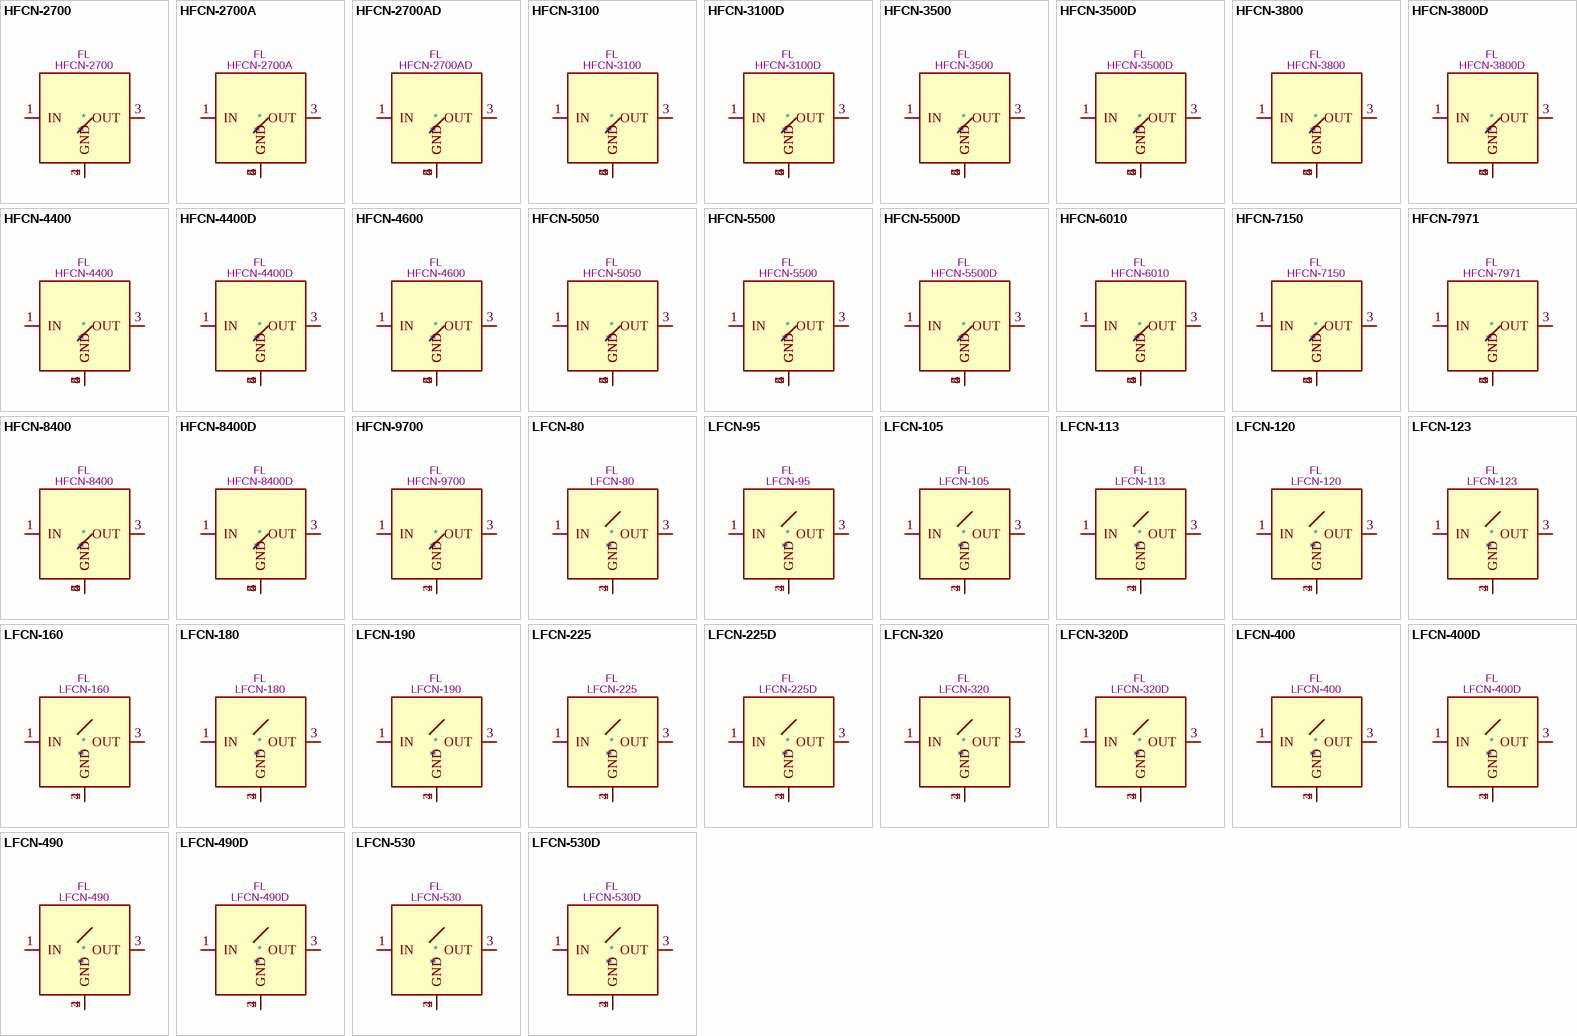
[diagram p2: symbols HFCN-2700 to LFCN-530D]

## HFCN-2700
designator *  value HFCN-2700  Reference: FL
2500MHz 50 Ohm Passive High Pass Filter, FV1206; ki_keywords: Mini-Circuits high pass filter; ki_fp_filters: Filter*Mini?Circuits*FV1206*; Footprint: Filter:Filter_Mini-Circuits_FV1206; Datasheet: https://www.minicircuits.com/pdfs/HFCN-2700+.pdf; Description_: 2500MHz 50 Ohm Passive High Pass Filter, FV1206
pins: 1 IN, 2 GND, 3 OUT, 4 GND

## HFCN-2700A
designator *  value HFCN-2700A  Reference: FL
2700MHz 50 Ohm Passive High Pass Filter, FV1206-1; ki_keywords: Mini-Circuits high pass filter; ki_fp_filters: Filter*Mini?Circuits*FV1206?1*; Footprint: Filter:Filter_Mini-Circuits_FV1206-1; Datasheet: https://www.minicircuits.com/pdfs/HFCN-2700A+.pdf; Description_: 2700MHz 50 Ohm Passive High Pass Filter, FV1206-1
pins: 1 IN, 2 GND, 3 OUT, 4 GND, 5 GND, 6 GND

## HFCN-2700AD
designator *  value HFCN-2700AD  Reference: FL
2700MHz 50 Ohm Passive High Pass Filter, DC capable, FV1206-1; ki_keywords: Mini-Circuits high pass filter; ki_fp_filters: Filter*Mini?Circuits*FV1206?1*; Footprint: Filter:Filter_Mini-Circuits_FV1206-1; Datasheet: https://www.minicircuits.com/pdfs/HFCN-2700AD+.pdf; Description_: 2700MHz 50 Ohm Passive High Pass Filter, DC capable, FV1206-1
pins: 1 IN, 2 GND, 3 OUT, 4 GND, 5 GND, 6 GND

## HFCN-3100
designator *  value HFCN-3100  Reference: FL
3100MHz 50 Ohm Passive High Pass Filter, FV1206-1; ki_keywords: Mini-Circuits high pass filter; ki_fp_filters: Filter*Mini?Circuits*FV1206?1*; Footprint: Filter:Filter_Mini-Circuits_FV1206-1; Datasheet: https://www.minicircuits.com/pdfs/HFCN-3100+.pdf; Description_: 3100MHz 50 Ohm Passive High Pass Filter, FV1206-1
pins: 1 IN, 2 GND, 3 OUT, 4 GND, 5 GND, 6 GND

## HFCN-3100D
designator *  value HFCN-3100D  Reference: FL
3100MHz 50 Ohm Passive High Pass Filter, DC capable, FV1206-1; ki_keywords: Mini-Circuits high pass filter; ki_fp_filters: Filter*Mini?Circuits*FV1206?1*; Footprint: Filter:Filter_Mini-Circuits_FV1206-1; Datasheet: https://www.minicircuits.com/pdfs/HFCN-3100D+.pdf; Description_: 3100MHz 50 Ohm Passive High Pass Filter, DC capable, FV1206-1
pins: 1 IN, 2 GND, 3 OUT, 4 GND, 5 GND, 6 GND

## HFCN-3500
designator *  value HFCN-3500  Reference: FL
3500MHz 50 Ohm Passive High Pass Filter, FV1206-1; ki_keywords: Mini-Circuits high pass filter; ki_fp_filters: Filter*Mini?Circuits*FV1206?1*; Footprint: Filter:Filter_Mini-Circuits_FV1206-1; Datasheet: https://www.minicircuits.com/pdfs/HFCN-3500+.pdf; Description_: 3500MHz 50 Ohm Passive High Pass Filter, FV1206-1
pins: 1 IN, 2 GND, 3 OUT, 4 GND, 5 GND, 6 GND

## HFCN-3500D
designator *  value HFCN-3500D  Reference: FL
3500MHz 50 Ohm Passive High Pass Filter, DC capable, FV1206-1; ki_keywords: Mini-Circuits high pass filter; ki_fp_filters: Filter*Mini?Circuits*FV1206?1*; Footprint: Filter:Filter_Mini-Circuits_FV1206-1; Datasheet: https://www.minicircuits.com/pdfs/HFCN-3500D+.pdf; Description_: 3500MHz 50 Ohm Passive High Pass Filter, DC capable, FV1206-1
pins: 1 IN, 2 GND, 3 OUT, 4 GND, 5 GND, 6 GND

## HFCN-3800
designator *  value HFCN-3800  Reference: FL
3800MHz 50 Ohm Passive High Pass Filter, FV1206-1; ki_keywords: Mini-Circuits high pass filter; ki_fp_filters: Filter*Mini?Circuits*FV1206?1*; Footprint: Filter:Filter_Mini-Circuits_FV1206-1; Datasheet: https://www.minicircuits.com/pdfs/HFCN-3800+.pdf; Description_: 3800MHz 50 Ohm Passive High Pass Filter, FV1206-1
pins: 1 IN, 2 GND, 3 OUT, 4 GND, 5 GND, 6 GND

## HFCN-3800D
designator *  value HFCN-3800D  Reference: FL
3800MHz 50 Ohm Passive High Pass Filter, DC capable, FV1206-1; ki_keywords: Mini-Circuits high pass filter; ki_fp_filters: Filter*Mini?Circuits*FV1206?1*; Footprint: Filter:Filter_Mini-Circuits_FV1206-1; Datasheet: https://www.minicircuits.com/pdfs/HFCN-3800D+.pdf; Description_: 3800MHz 50 Ohm Passive High Pass Filter, DC capable, FV1206-1
pins: 1 IN, 2 GND, 3 OUT, 4 GND, 5 GND, 6 GND

## HFCN-4400
designator *  value HFCN-4400  Reference: FL
4400MHz 50 Ohm Passive High Pass Filter, FV1206-1; ki_keywords: Mini-Circuits high pass filter; ki_fp_filters: Filter*Mini?Circuits*FV1206?1*; Footprint: Filter:Filter_Mini-Circuits_FV1206-1; Datasheet: https://www.minicircuits.com/pdfs/HFCN-4400+.pdf; Description_: 4400MHz 50 Ohm Passive High Pass Filter, FV1206-1
pins: 1 IN, 2 GND, 3 OUT, 4 GND, 5 GND, 6 GND

## HFCN-4400D
designator *  value HFCN-4400D  Reference: FL
4400MHz 50 Ohm Passive High Pass Filter, DC capable, FV1206-1; ki_keywords: Mini-Circuits high pass filter; ki_fp_filters: Filter*Mini?Circuits*FV1206?1*; Footprint: Filter:Filter_Mini-Circuits_FV1206-1; Datasheet: https://www.minicircuits.com/pdfs/HFCN-4400D+.pdf; Description_: 4400MHz 50 Ohm Passive High Pass Filter, DC capable, FV1206-1
pins: 1 IN, 2 GND, 3 OUT, 4 GND, 5 GND, 6 GND

## HFCN-4600
designator *  value HFCN-4600  Reference: FL
4600MHz 50 Ohm Passive High Pass Filter, FV1206-1; ki_keywords: Mini-Circuits high pass filter; ki_fp_filters: Filter*Mini?Circuits*FV1206?1*; Footprint: Filter:Filter_Mini-Circuits_FV1206-1; Datasheet: https://www.minicircuits.com/pdfs/HFCN-4600+.pdf; Description_: 4600MHz 50 Ohm Passive High Pass Filter, FV1206-1
pins: 1 IN, 2 GND, 3 OUT, 4 GND, 5 GND, 6 GND

## HFCN-5050
designator *  value HFCN-5050  Reference: FL
5050MHz 50 Ohm Passive High Pass Filter, FV1206-1; ki_keywords: Mini-Circuits high pass filter; ki_fp_filters: Filter*Mini?Circuits*FV1206?1*; Footprint: Filter:Filter_Mini-Circuits_FV1206-1; Datasheet: https://www.minicircuits.com/pdfs/HFCN-5050+.pdf; Description_: 5050MHz 50 Ohm Passive High Pass Filter, FV1206-1
pins: 1 IN, 2 GND, 3 OUT, 4 GND, 5 GND, 6 GND

## HFCN-5500
designator *  value HFCN-5500  Reference: FL
5500MHz 50 Ohm Passive High Pass Filter, FV1206-1; ki_keywords: Mini-Circuits high pass filter; ki_fp_filters: Filter*Mini?Circuits*FV1206?1*; Footprint: Filter:Filter_Mini-Circuits_FV1206-1; Datasheet: https://www.minicircuits.com/pdfs/HFCN-5500+.pdf; Description_: 5500MHz 50 Ohm Passive High Pass Filter, FV1206-1
pins: 1 IN, 2 GND, 3 OUT, 4 GND, 5 GND, 6 GND

## HFCN-5500D
designator *  value HFCN-5500D  Reference: FL
5500MHz 50 Ohm Passive High Pass Filter, DC capable, FV1206-1; ki_keywords: Mini-Circuits high pass filter; ki_fp_filters: Filter*Mini?Circuits*FV1206?1*; Footprint: Filter:Filter_Mini-Circuits_FV1206-1; Datasheet: https://www.minicircuits.com/pdfs/HFCN-5500D+.pdf; Description_: 5500MHz 50 Ohm Passive High Pass Filter, DC capable, FV1206-1
pins: 1 IN, 2 GND, 3 OUT, 4 GND, 5 GND, 6 GND

## HFCN-6010
designator *  value HFCN-6010  Reference: FL
6010MHz 50 Ohm Passive High Pass Filter, FV1206-1; ki_keywords: Mini-Circuits high pass filter; ki_fp_filters: Filter*Mini?Circuits*FV1206?1*; Footprint: Filter:Filter_Mini-Circuits_FV1206-1; Datasheet: https://www.minicircuits.com/pdfs/HFCN-6010+.pdf; Description_: 6010MHz 50 Ohm Passive High Pass Filter, FV1206-1
pins: 1 IN, 2 GND, 3 OUT, 4 GND, 5 GND, 6 GND

## HFCN-7150
designator *  value HFCN-7150  Reference: FL
7150MHz 50 Ohm Passive High Pass Filter, FV1206-1; ki_keywords: Mini-Circuits high pass filter; ki_fp_filters: Filter*Mini?Circuits*FV1206?1*; Footprint: Filter:Filter_Mini-Circuits_FV1206-1; Datasheet: https://www.minicircuits.com/pdfs/HFCN-7150+.pdf; Description_: 7150MHz 50 Ohm Passive High Pass Filter, FV1206-1
pins: 1 IN, 2 GND, 3 OUT, 4 GND, 5 GND, 6 GND

## HFCN-7971
designator *  value HFCN-7971  Reference: FL
8000MHz 50 Ohm Passive High Pass Filter, FV1206-1; ki_keywords: Mini-Circuits high pass filter; ki_fp_filters: Filter*Mini?Circuits*FV1206?1*; Footprint: Filter:Filter_Mini-Circuits_FV1206-1; Datasheet: https://www.minicircuits.com/pdfs/HFCN-7971+.pdf; Description_: 8000MHz 50 Ohm Passive High Pass Filter, FV1206-1
pins: 1 IN, 2 GND, 3 OUT, 4 GND, 5 GND, 6 GND

## HFCN-8400
designator *  value HFCN-8400  Reference: FL
8400MHz 50 Ohm Passive High Pass Filter, FV1206-1; ki_keywords: Mini-Circuits high pass filter; ki_fp_filters: Filter*Mini?Circuits*FV1206?1*; Footprint: Filter:Filter_Mini-Circuits_FV1206-1; Datasheet: https://www.minicircuits.com/pdfs/HFCN-8400+.pdf; Description_: 8400MHz 50 Ohm Passive High Pass Filter, FV1206-1
pins: 1 IN, 2 GND, 3 OUT, 4 GND, 5 GND, 6 GND

## HFCN-8400D
designator *  value HFCN-8400D  Reference: FL
8400MHz 50 Ohm Passive High Pass Filter, DC capable, FV1206-1; ki_keywords: Mini-Circuits high pass filter; ki_fp_filters: Filter*Mini?Circuits*FV1206?1*; Footprint: Filter:Filter_Mini-Circuits_FV1206-1; Datasheet: https://www.minicircuits.com/pdfs/HFCN-8400D+.pdf; Description_: 8400MHz 50 Ohm Passive High Pass Filter, DC capable, FV1206-1
pins: 1 IN, 2 GND, 3 OUT, 4 GND, 5 GND, 6 GND

## HFCN-9700
designator *  value HFCN-9700  Reference: FL
9070MHz 50 Ohm Passive High Pass Filter, FV1206-4; ki_keywords: Mini-Circuits high pass filter; ki_fp_filters: Filter*Mini?Circuits*FV1206?4*; Footprint: Filter:Filter_Mini-Circuits_FV1206-4; Datasheet: https://www.minicircuits.com/pdfs/HFCN-9700+.pdf; Description_: 9070MHz 50 Ohm Passive High Pass Filter, FV1206-4
pins: 1 IN, 2 GND, 3 OUT, 4 GND

## LFCN-80
designator *  value LFCN-80  Reference: FL
80MHz 50 Ohm Passive Low Pass Filter, FV1206; ki_keywords: Mini-Circuits low pass filter; ki_fp_filters: Filter*Mini?Circuits*FV1206*; Footprint: Filter:Filter_Mini-Circuits_FV1206; Datasheet: https://www.minicircuits.com/pdfs/LFCN-80+.pdf; Description_: 80MHz 50 Ohm Passive Low Pass Filter, FV1206
pins: 1 IN, 2 GND, 3 OUT, 4 GND

## LFCN-95
designator *  value LFCN-95  Reference: FL
95MHz 50 Ohm Passive Low Pass Filter, FV1206; ki_keywords: Mini-Circuits low pass filter; ki_fp_filters: Filter*Mini?Circuits*FV1206*; Footprint: Filter:Filter_Mini-Circuits_FV1206; Datasheet: https://www.minicircuits.com/pdfs/LFCN-95+.pdf; Description_: 95MHz 50 Ohm Passive Low Pass Filter, FV1206
pins: 1 IN, 2 GND, 3 OUT, 4 GND

## LFCN-105
designator *  value LFCN-105  Reference: FL
105MHz 50 Ohm Passive Low Pass Filter, FV1206; ki_keywords: Mini-Circuits low pass filter; ki_fp_filters: Filter*Mini?Circuits*FV1206*; Footprint: Filter:Filter_Mini-Circuits_FV1206; Datasheet: https://www.minicircuits.com/pdfs/LFCN-105+.pdf; Description_: 105MHz 50 Ohm Passive Low Pass Filter, FV1206
pins: 1 IN, 2 GND, 3 OUT, 4 GND

## LFCN-113
designator *  value LFCN-113  Reference: FL
11000MHz 50 Ohm Passive Low Pass Filter, FV1206-4; ki_keywords: Mini-Circuits low pass filter; ki_fp_filters: Filter*Mini?Circuits*FV1206?4*; Footprint: Filter:Filter_Mini-Circuits_FV1206-4; Datasheet: https://www.minicircuits.com/pdfs/LFCN-113+.pdf; Description_: 11000MHz 50 Ohm Passive Low Pass Filter, FV1206-4
pins: 1 IN, 2 GND, 3 OUT, 4 GND

## LFCN-120
designator *  value LFCN-120  Reference: FL
120MHz 50 Ohm Passive Low Pass Filter, FV1206; ki_keywords: Mini-Circuits low pass filter; ki_fp_filters: Filter*Mini?Circuits*FV1206*; Footprint: Filter:Filter_Mini-Circuits_FV1206; Datasheet: https://www.minicircuits.com/pdfs/LFCN-120+.pdf; Description_: 120MHz 50 Ohm Passive Low Pass Filter, FV1206
pins: 1 IN, 2 GND, 3 OUT, 4 GND

## LFCN-123
designator *  value LFCN-123  Reference: FL
12000MHz 50 Ohm Passive Low Pass Filter, FV1206-4; ki_keywords: Mini-Circuits low pass filter; ki_fp_filters: Filter*Mini?Circuits*FV1206?4*; Footprint: Filter:Filter_Mini-Circuits_FV1206-4; Datasheet: https://www.minicircuits.com/pdfs/LFCN-123+.pdf; Description_: 12000MHz 50 Ohm Passive Low Pass Filter, FV1206-4
pins: 1 IN, 2 GND, 3 OUT, 4 GND

## LFCN-160
designator *  value LFCN-160  Reference: FL
160MHz 50 Ohm Passive Low Pass Filter, FV1206; ki_keywords: Mini-Circuits low pass filter; ki_fp_filters: Filter*Mini?Circuits*FV1206*; Footprint: Filter:Filter_Mini-Circuits_FV1206; Datasheet: https://www.minicircuits.com/pdfs/LFCN-160+.pdf; Description_: 160MHz 50 Ohm Passive Low Pass Filter, FV1206
pins: 1 IN, 2 GND, 3 OUT, 4 GND

## LFCN-180
designator *  value LFCN-180  Reference: FL
180MHz 50 Ohm Passive Low Pass Filter, FV1206; ki_keywords: Mini-Circuits low pass filter; ki_fp_filters: Filter*Mini?Circuits*FV1206*; Footprint: Filter:Filter_Mini-Circuits_FV1206; Datasheet: https://www.minicircuits.com/pdfs/LFCN-180+.pdf; Description_: 180MHz 50 Ohm Passive Low Pass Filter, FV1206
pins: 1 IN, 2 GND, 3 OUT, 4 GND

## LFCN-190
designator *  value LFCN-190  Reference: FL
190MHz 50 Ohm Passive Low Pass Filter, FV1206; ki_keywords: Mini-Circuits low pass filter; ki_fp_filters: Filter*Mini?Circuits*FV1206*; Footprint: Filter:Filter_Mini-Circuits_FV1206; Datasheet: https://www.minicircuits.com/pdfs/LFCN-190+.pdf; Description_: 190MHz 50 Ohm Passive Low Pass Filter, FV1206
pins: 1 IN, 2 GND, 3 OUT, 4 GND

## LFCN-225
designator *  value LFCN-225  Reference: FL
225MHz 50 Ohm Passive Low Pass Filter, FV1206; ki_keywords: Mini-Circuits low pass filter; ki_fp_filters: Filter*Mini?Circuits*FV1206*; Footprint: Filter:Filter_Mini-Circuits_FV1206; Datasheet: https://www.minicircuits.com/pdfs/LFCN-225+.pdf; Description_: 225MHz 50 Ohm Passive Low Pass Filter, FV1206
pins: 1 IN, 2 GND, 3 OUT, 4 GND

## LFCN-225D
designator *  value LFCN-225D  Reference: FL
225MHz 50 Ohm Passive Low Pass Filter, DC capable, FV1206; ki_keywords: Mini-Circuits low pass filter; ki_fp_filters: Filter*Mini?Circuits*FV1206*; Footprint: Filter:Filter_Mini-Circuits_FV1206; Datasheet: https://www.minicircuits.com/pdfs/LFCN-225D+.pdf; Description_: 225MHz 50 Ohm Passive Low Pass Filter, DC capable, FV1206
pins: 1 IN, 2 GND, 3 OUT, 4 GND

## LFCN-320
designator *  value LFCN-320  Reference: FL
320MHz 50 Ohm Passive Low Pass Filter, FV1206; ki_keywords: Mini-Circuits low pass filter; ki_fp_filters: Filter*Mini?Circuits*FV1206*; Footprint: Filter:Filter_Mini-Circuits_FV1206; Datasheet: https://www.minicircuits.com/pdfs/LFCN-320+.pdf; Description_: 320MHz 50 Ohm Passive Low Pass Filter, FV1206
pins: 1 IN, 2 GND, 3 OUT, 4 GND

## LFCN-320D
designator *  value LFCN-320D  Reference: FL
320MHz 50 Ohm Passive Low Pass Filter, DC capable, FV1206; ki_keywords: Mini-Circuits low pass filter; ki_fp_filters: Filter*Mini?Circuits*FV1206*; Footprint: Filter:Filter_Mini-Circuits_FV1206; Datasheet: https://www.minicircuits.com/pdfs/LFCN-320D+.pdf; Description_: 320MHz 50 Ohm Passive Low Pass Filter, DC capable, FV1206
pins: 1 IN, 2 GND, 3 OUT, 4 GND

## LFCN-400
designator *  value LFCN-400  Reference: FL
400MHz 50 Ohm Passive Low Pass Filter, FV1206; ki_keywords: Mini-Circuits low pass filter; ki_fp_filters: Filter*Mini?Circuits*FV1206*; Footprint: Filter:Filter_Mini-Circuits_FV1206; Datasheet: https://www.minicircuits.com/pdfs/LFCN-400+.pdf; Description_: 400MHz 50 Ohm Passive Low Pass Filter, FV1206
pins: 1 IN, 2 GND, 3 OUT, 4 GND

## LFCN-400D
designator *  value LFCN-400D  Reference: FL
400MHz 50 Ohm Passive Low Pass Filter, DC capable, FV1206; ki_keywords: Mini-Circuits low pass filter; ki_fp_filters: Filter*Mini?Circuits*FV1206*; Footprint: Filter:Filter_Mini-Circuits_FV1206; Datasheet: https://www.minicircuits.com/pdfs/LFCN-400D+.pdf; Description_: 400MHz 50 Ohm Passive Low Pass Filter, DC capable, FV1206
pins: 1 IN, 2 GND, 3 OUT, 4 GND

## LFCN-490
designator *  value LFCN-490  Reference: FL
490MHz 50 Ohm Passive Low Pass Filter, FV1206; ki_keywords: Mini-Circuits low pass filter; ki_fp_filters: Filter*Mini?Circuits*FV1206*; Footprint: Filter:Filter_Mini-Circuits_FV1206; Datasheet: https://www.minicircuits.com/pdfs/LFCN-490+.pdf; Description_: 490MHz 50 Ohm Passive Low Pass Filter, FV1206
pins: 1 IN, 2 GND, 3 OUT, 4 GND

## LFCN-490D
designator *  value LFCN-490D  Reference: FL
490MHz 50 Ohm Passive Low Pass Filter, DC capable, FV1206; ki_keywords: Mini-Circuits low pass filter; ki_fp_filters: Filter*Mini?Circuits*FV1206*; Footprint: Filter:Filter_Mini-Circuits_FV1206; Datasheet: https://www.minicircuits.com/pdfs/LFCN-490D+.pdf; Description_: 490MHz 50 Ohm Passive Low Pass Filter, DC capable, FV1206
pins: 1 IN, 2 GND, 3 OUT, 4 GND

## LFCN-530
designator *  value LFCN-530  Reference: FL
530MHz 50 Ohm Passive Low Pass Filter, FV1206; ki_keywords: Mini-Circuits low pass filter; ki_fp_filters: Filter*Mini?Circuits*FV1206*; Footprint: Filter:Filter_Mini-Circuits_FV1206; Datasheet: https://www.minicircuits.com/pdfs/LFCN-530+.pdf; Description_: 530MHz 50 Ohm Passive Low Pass Filter, FV1206
pins: 1 IN, 2 GND, 3 OUT, 4 GND